# EAGLE library part FCI_SD_SOCKET (library fci_sd_socket)
FCI Memory Card Connector (SD card)
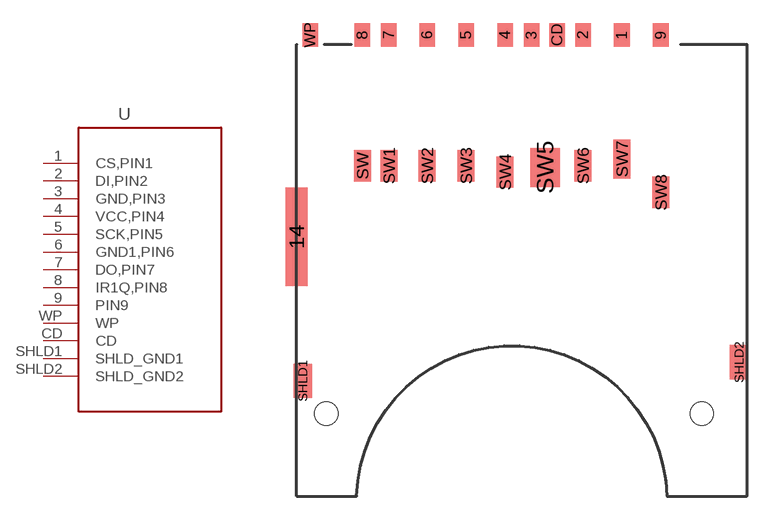
[diagram p0: symbol with the pads of SD-MMC_SOCKET-PP; footprint SD-MMC_SOCKET-PP]

Designator prefix -

## FCI_SD_SOCKET (MF: FCI; MOUSER: 649-10067847-001RLF; MPN: 10067847-001RLF)  [SD-MMC_SOCKET-PP]
1  CS,PIN1
2  DI,PIN2
3  GND,PIN3
4  VCC,PIN4
5  SCK,PIN5
6  GND1,PIN6
7  DO,PIN7
8  IR1Q,PIN8
9  PIN9
CD  CD
SHLD1  SHLD_GND1
SHLD2  SHLD_GND2
WP  WP

## Footprint SD-MMC_SOCKET-PP (pad centres in mm)
FCI SD SOCKET
smd 1 x 1.5: 1 6.875,29.6; 2 4.375,29.6; 3 1.075,29.6; 4 -0.625,29.6; 5 -3.125,29.6; 6 -5.625,29.6; 7 -8.075,29.6; 8 -9.775,29.6; 9 9.375,29.6; CD 2.725,29.6; WP -13.125,29.6
smd 1.4 x 6.3: 14 -14,16.65
smd 1.2 x 2.2: SHLD1 -13.6,7.4; SHLD2 14.4,8.6
smd 1.1 x 2: SW -9.775,21.2; SW1 -8.075,21.2; SW2 -5.625,21.2; SW3 -3.125,21.2; SW4 -0.625,20.8; SW6 4.375,21.2; SW8 9.375,19.5
smd 1.9 x 2.5: SW5 1.95,21.1
smd 1.1 x 2.5: SW7 6.875,21.65
hole 1.5 at -12.1,5.3
hole 1.5 at 12,5.3